# EAGLE library part AC_DC (library HOME_Automation)
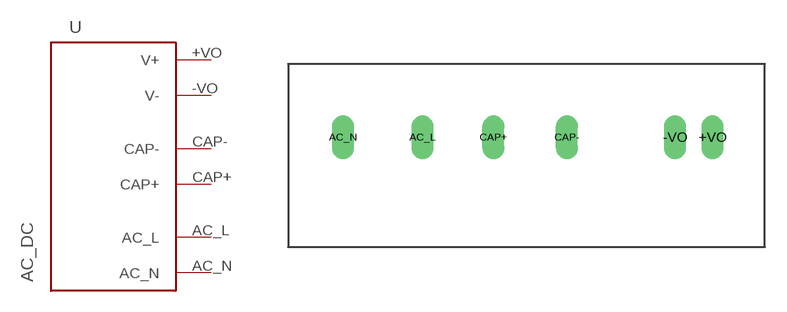
[diagram p13: symbol with the pads of AC_DC_5V_200MA; footprint AC_DC_5V_200MA]

Designator prefix -

## AC_DC1  [AC_DC_5V_200MA]
+VO  V+
-VO  V-
AC_L  AC_L
AC_N  AC_N
CAP+  CAP+
CAP-  CAP-

## Footprint AC_DC_5V_200MA (pad centres in mm)
drill 1.016 long: +VO 25.6,0; -VO 23,0; AC_L 5.5,0; AC_N 0,0; CAP+ 10.4,0; CAP- 15.5,0